# Altium schematic symbol library ETA3409S2F.SchLib: 1 symbol
Pins are listed as number, name and electrical type; pins without a type are passive.

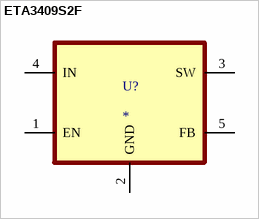
[diagram p0: symbol ETA3409S2F]

## ETA3409S2F
designator U?
MF: Texas Instruments; MP: LMV7219M5; SnapEDA_Link: https://www.snapeda.com/parts/LMV7219M5/Texas+Instruments/view-part/?ref=snap; Package: SOT-23-5 Texas Instruments; Value: *; Check_prices: https://www.snapeda.com/parts/LMV7219M5/Texas+Instruments/view-part/?ref=eda
footprint SOT95P280X145-5N
pins: 1 EN, 2 GND (power), 3 SW, 4 IN, 5 FB (power)